# Altium footprint library CN_RJ45_TYCO_5557730_1.PcbLib: 1 footprints
Each footprint in its own frame and in the unit in brackets; x right, y up, seen from the top. Pads: shape width x height; smd on the part's side, far side on the other; paste and mask are expansions set on the pad; w line width, h text height; cw(c..) or ccw(c..) is an arc to the next point about the centre after c.
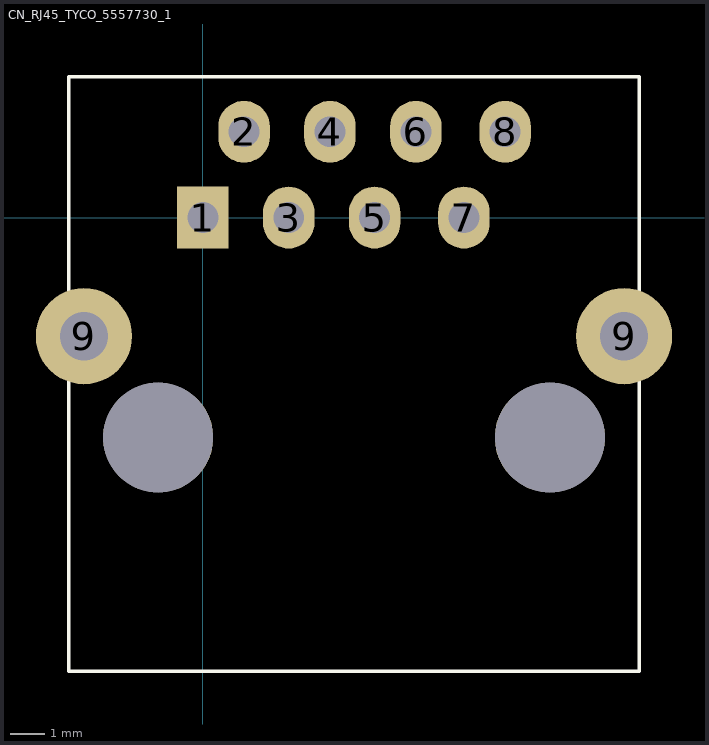
[diagram p0: the footprint, top view; thin cyan lines are the x and y axes]

## CN_RJ45_TYCO_5557730_1 [mm] "TE CONNECTIVITY / AMP - 5557730-1.."
pads (12):
  rect 1.5x1.8 hole 0.9: 1(0,0)
  oval 1.5x1.8 hole 0.9: 2(1.2,2.5) 3(2.5,0) 4(3.7,2.5) 5(5,0) 6(6.2,2.5) 7(7.6,0) 8(8.8,2.5)
  round 2.8 hole 1.4: 9(-3.46,-3.45) 9(12.26,-3.45)
  round 3.2 hole 3.2 unplated: ""(-1.3,-6.4) ""(10.1,-6.4)
Top Overlay:
  lines w0.1: -3.9,-13.2 12.7,-13.2 12.7,4.1 -3.9,4.1 -3.9,-13.2
3D body: height 16.76, standoff -3.43, extent -4.572,-14.076 13.462,3.704